# Altium footprint library KLS1-4.20-2X04-R.PcbLib: 1 footprints
Each footprint in its own frame and in the unit in brackets; x right, y up, seen from the top. Pads: shape width x height; smd on the part's side, far side on the other; paste and mask are expansions set on the pad; w line width, h text height; cw(c..) or ccw(c..) is an arc to the next point about the centre after c.
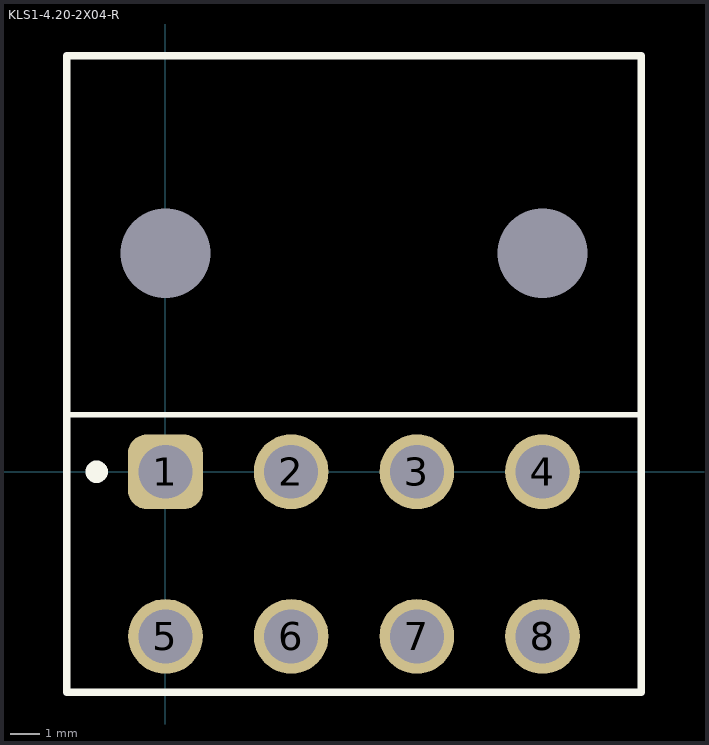
[diagram p0: the footprint, top view; thin cyan lines are the x and y axes]

## KLS1-4.20-2X04-R [mm]
pads (10):
  rrect50% 2.5x2.5 hole 1.8: 1(0,0)
  round 2.5 hole 1.8: 2(4.2,0) 3(8.4,0) 4(12.6,0) 5(0,-5.5) 6(4.2,-5.5) 7(8.4,-5.5) 8(12.6,-5.5)
  round 0 hole 3: 16(0,7.3) 16(12.6,7.3)
Top Overlay:
  circle w0.5: c-2.3,0 r0.125
  lines w0.2: -3.3,1.905 15.9,1.905
  lines w0.254: -3.3,-7.366 15.9,-7.366 15.9,1.905 15.9,13.9 3.305,13.9 -3.3,13.9 -3.3,2.505 -3.3,-7.366
3D body "HEADER-4.2-2x4-RANGLE.stp": height 11.4, standoff -3.3, extent -3.3,-6.067 15.9,13.867